# Altium schematic symbol library HE7XX.SchLib: 1 symbol
Pins are listed as number, name and electrical type; pins without a type are passive.

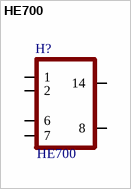
[diagram p0: symbol HE700]

## HE700
designator H?
HE700 Miniature Dual In-line Reed Relay; Model Number: *; Number of Contacts: *; Contact Type: *; Standard Coil: *; General Options: *; Part Numbering System: *
footprint HE700 (HE700 Miniature Dual In-line Reed Relay)
pins: 1, 2, 6, 7, 8, 14